# EAGLE library part MSP430G2553 (library magzor)
TI MSP430G2XX3 mixed signal microcontroller
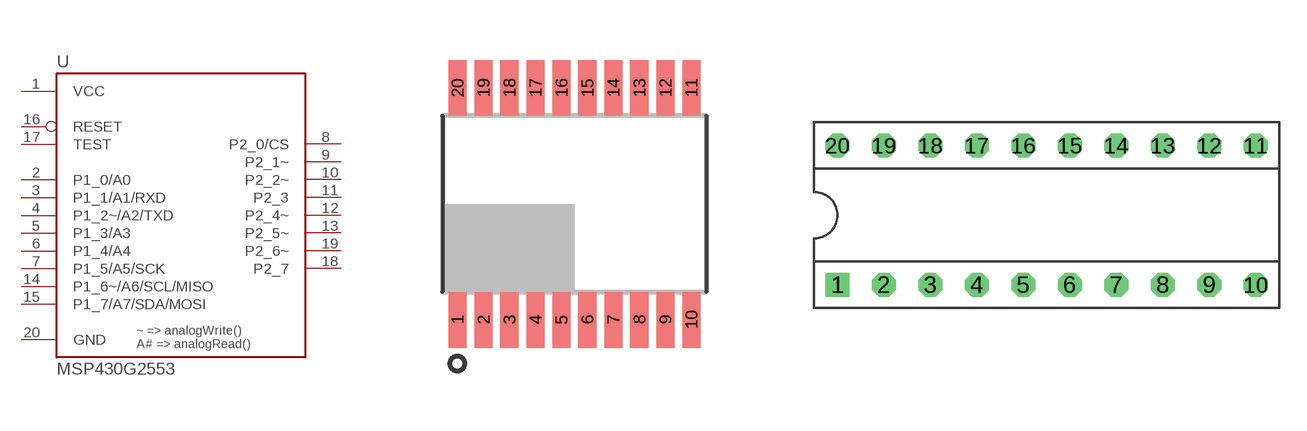
[diagram p28: symbol with the pads of TSSOP20; footprints TSSOP20, DIP20]

Designator prefix U

## MSP430G2553*W  [TSSOP20]
1  VCC
2  P1_0/A0
3  P1_1/A1/RXD
4  P1_2~/A2/TXD
5  P1_3/A3
6  P1_4/A4
7  P1_5/A5/SCK
8  P2_0/CS
9  P2_1~
10  P2_2~
11  P2_3
12  P2_4~
13  P2_5~
14  P1_6~/A6/SCL/MISO
15  P1_7/A7/SDA/MOSI
16  RESET
17  TEST
18  P2_7
19  P2_6~
20  GND

## MSP430G2553*N  [DIP20]
Pads as for TSSOP20

## Footprint TSSOP20 (pad centres in mm)
aka SOT360
smd 0.45 x 1.4: 1 -2.925,-2.9; 2 -2.275,-2.9; 3 -1.625,-2.9; 4 -0.975,-2.9; 5 -0.325,-2.9; 6 0.325,-2.9; 7 0.975,-2.9; 8 1.625,-2.9; 9 2.275,-2.9; 10 2.925,-2.9; 11 2.925,2.9; 12 2.275,2.9; 13 1.625,2.9; 14 0.975,2.9; 15 0.325,2.9; 16 -0.325,2.9; 17 -0.975,2.9; 18 -1.625,2.9; 19 -2.275,2.9; 20 -2.925,2.9

## Footprint DIP20 (pad centres in mm)
drill 0.813 square: 1 -13.97,-3.81
drill 0.813 octagon: 2 -11.43,-3.81; 3 -8.89,-3.81; 4 -6.35,-3.81; 5 -3.81,-3.81; 6 -1.27,-3.81; 7 1.27,-3.81; 8 3.81,-3.81; 9 6.35,-3.81; 10 8.89,-3.81; 11 8.89,3.81; 12 6.35,3.81; 13 3.81,3.81; 14 1.27,3.81; 15 -1.27,3.81; 16 -3.81,3.81; 17 -6.35,3.81; 18 -8.89,3.81; 19 -11.43,3.81; 20 -13.97,3.81